# EAGLE library part IBMAB (library con-pc)
8-bit CARD IBM/PC-AT
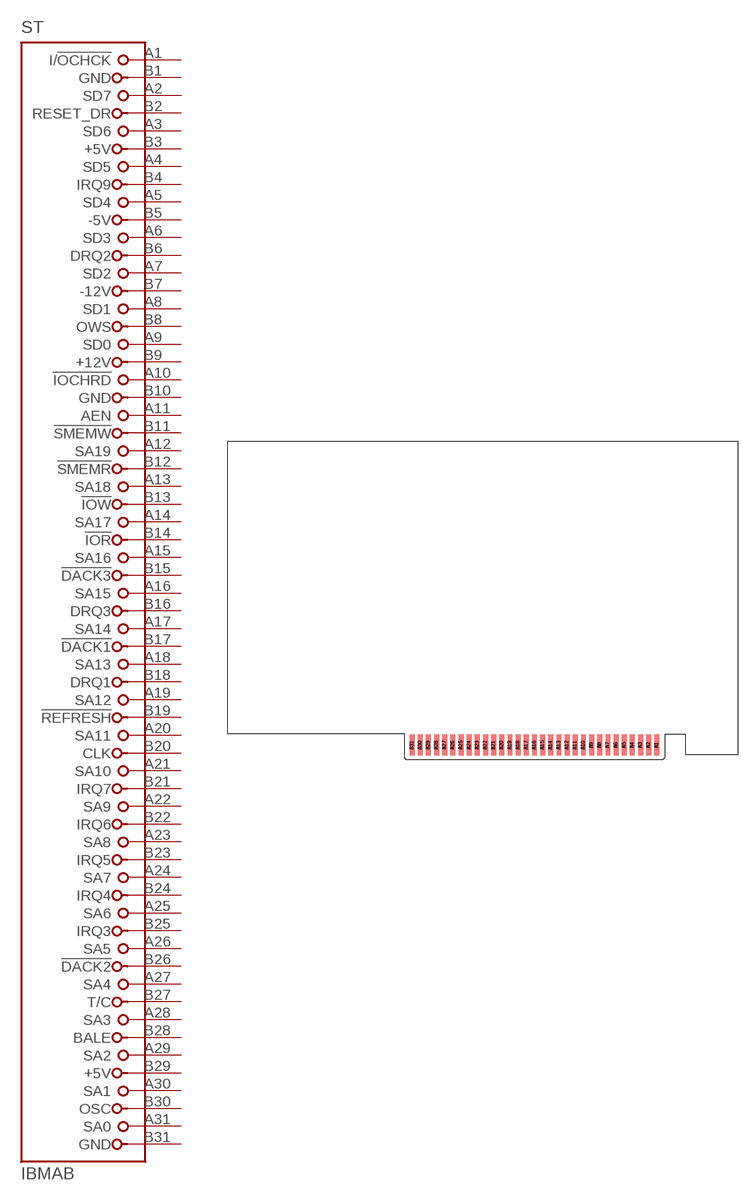
[diagram p9: symbol with the pads of IBM_8AB; footprint IBM_8AB]

Designator prefix ST

## IBMAB  [IBM_8AB]
A1  I/!OCHCK  in
A2  SD7
A3  SD6
A4  SD5
A5  SD4
A6  SD3
A7  SD2
A8  SD1
A9  SD0
A10  !IOCHRD  in
A11  AEN  out
A12  SA19
A13  SA18
A14  SA17
A15  SA16
A16  SA15
A17  SA14
A18  SA13
A19  SA12
A20  SA11
A21  SA10
A22  SA9
A23  SA8
A24  SA7
A25  SA6
A26  SA5
A27  SA4
A28  SA3
A29  SA2
A30  SA1
A31  SA0
B1  GND  pwr
B2  RESET_DR  out
B3  +5V  pwr
B4  IRQ9  in
B5  -5V  pwr
B6  DRQ2  in
B7  -12V  pwr
B8  OWS  in
B9  +12V  pwr
B10  GND  pwr
B11  !SMEMW  out
B12  !SMEMR  out
B13  !IOW
B14  !IOR
B15  !DACK3  out
B16  DRQ3  in
B17  !DACK1  out
B18  DRQ1  in
B19  !REFRESH
B20  CLK  out
B21  IRQ7  in
B22  IRQ6  in
B23  IRQ5  in
B24  IRQ4  in
B25  IRQ3  in
B26  !DACK2  out
B27  T/C  out
B28  BALE  out
B29  +5V  pwr
B30  OSC  out
B31  GND  pwr

## Footprint IBM_8AB (pad centres in mm)
8-bit CARD IBM/PC-AT
smd 1.524 x 6.477: A1 -25.4,5.08; A2 -27.94,5.08; A3 -30.48,5.08; A4 -33.02,5.08; A5 -35.56,5.08; A6 -38.1,5.08; A7 -40.64,5.08; A8 -43.18,5.08; A9 -45.72,5.08; A10 -48.26,5.08; A11 -50.8,5.08; A12 -53.34,5.08; A13 -55.88,5.08; A14 -58.42,5.08; A15 -60.96,5.08; A16 -63.5,5.08; A17 -66.04,5.08; A18 -68.58,5.08; A19 -71.12,5.08; A20 -73.66,5.08; A21 -76.2,5.08; A22 -78.74,5.08; A23 -81.28,5.08; A24 -83.82,5.08; A25 -86.36,5.08; A26 -88.9,5.08; A27 -91.44,5.08; A28 -93.98,5.08; A29 -96.52,5.08; A30 -99.06,5.08; A31 -101.6,5.08
smd 1.524 x 6.477 bottom: B1 -25.4,5.08; B2 -27.94,5.08; B3 -30.48,5.08; B4 -33.02,5.08; B5 -35.56,5.08; B6 -38.1,5.08; B7 -40.64,5.08; B8 -43.18,5.08; B9 -45.72,5.08; B10 -48.26,5.08; B11 -50.8,5.08; B12 -53.34,5.08; B13 -55.88,5.08; B14 -58.42,5.08; B15 -60.96,5.08; B16 -63.5,5.08; B17 -66.04,5.08; B18 -68.58,5.08; B19 -71.12,5.08; B20 -73.66,5.08; B21 -76.2,5.08; B22 -78.74,5.08; B23 -81.28,5.08; B24 -83.82,5.08; B25 -86.36,5.08; B26 -88.9,5.08; B27 -91.44,5.08; B28 -93.98,5.08; B29 -96.52,5.08; B30 -99.06,5.08; B31 -101.6,5.08